# Altium integrated library LIB2022 - Switches.IntLib: 2 symbols
Pins are listed as number, name and electrical type; pins without a type are passive.

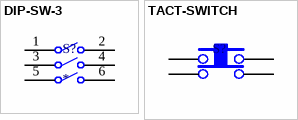
[diagram p0: symbols DIP-SW-3 to TACT-SWITCH]

## DIP-SW-3
designator S?
footprint DIP-SW-3
pins: 1, 2, 3, 4, 5, 6

## TACT-SWITCH
designator S?
footprint TACT-SWITCH
pins: 1, 2, 3, 4